# EAGLE library part NRF24L01 (library NRF24L01)
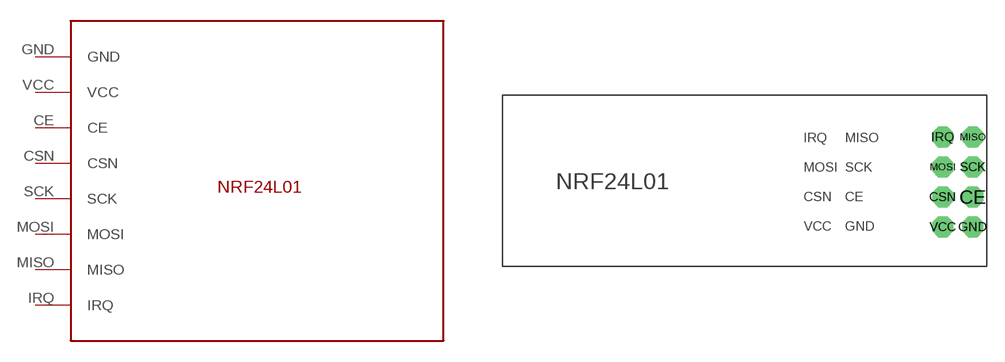
[diagram p0: symbol with the pads of NRF24L01; footprint NRF24L01]

Designator prefix -

## NRF24L01  [NRF24L01]
CE  CE
CSN  CSN
GND  GND
IRQ  IRQ
MISO  MISO
MOSI  MOSI
SCK  SCK
VCC  VCC

## Footprint NRF24L01 (pad centres in mm)
drill 0.9 pad 1.778 octagon: CE 39.81,-8.62; CSN 37.27,-8.62; GND 39.81,-11.16; IRQ 37.27,-3.54; MISO 39.81,-3.54; MOSI 37.27,-6.08; SCK 39.81,-6.08; VCC 37.27,-11.16